# Altium schematic symbol library Inductors.SchLib: 21 symbols
Pins are listed as number, name and electrical type; pins without a type are passive.

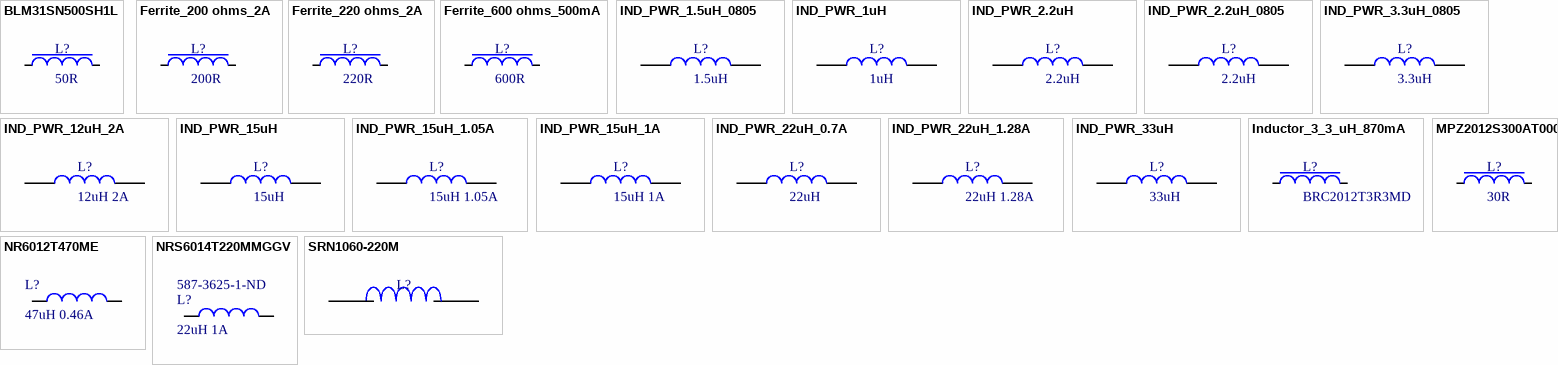
[diagram p0: symbols BLM31SN500SH1L to SRN1060-220M]

## BLM31SN500SH1L
designator L?, comment 50R
FILTER CHIP 50 OHM 12A 1206; Manufacturer: Murata Electronics North America; Manufacturer Part Number: BLM31SN500SH1L; Filter Type: Power Line; Number of Lines: 1; Impedance @ Frequency: 50 Ohm @ 100MHz; DC Resistance (DCR) (Max): 1.6 mOhm; Supplier 1: Digi-Key; RoHS: RoHS Compliant; Category: Filters; Stock 1: 4286; Pricing 1: 1=0.49, 10=0.405, 50=0.3148, 100=0.2797, 250=0.25172, 500=0.23074, 1000=0.19578 (CAD); Packaging: Cut Tape (CT); Part Status: Active; Current Rating (Max): 12A; Ratings: AEC-Q200; Operating Temperature: -55°C ~ 125°C; Package / Case: 1206 (3216 Metric); Mounting Type: Surface Mount; Height (Max): 0.051" (1.30mm); Size / Dimension: 0.126" L x 0.063" W (3.20mm x 1.60mm); ComponentLink1URL: http://www.murata.com/en-us/products/productdata/8796740583454/QNFA9105.pdf; ComponentLink1Description: http://www.murata.com/en-us/products/productdata/8796740583454/QNFA9105.pdf; Supplier Part Number 1: 490-13268-1-ND
footprint IND_1206 (Chip Inductor, 2-Leads, Body 3,1x1,6mm, IPC High Density)
pins: 1, 2

## Ferrite_200 ohms_2A
designator L?, comment 200R
FILTER CHIP 220 OHM 2A 0603; Manufacturer: Murata Electronics North America; Manufacturer Part Number: BLM18EG221SN1D; Impedance @ Frequency: 220 Ohm @ 100MHz; DC Resistance (DCR): 50 mOhm Max; Filter Type: Differential Mode - Single; Supplier 1: Digi-Key; RoHS: RoHS Compliant; Category: Filters; Stock 1: 382631; Pricing 1: 1=0.33, 10=0.254, 50=0.1814, 100=0.1632, 250=0.13784, 500=0.12332, 1000=0.10519 (CAD); Packaging: Cut Tape (CT); Current Rating: 2A; Package / Case: 0603 (1608 Metric); Mounting Type: Surface Mount; Height (Max): 0.037" (0.95mm); Size / Dimension: 0.063" L x 0.031" W (1.60mm x 0.80mm); ComponentLink1URL: http://search.murata.co.jp/Ceramy/image/img/PDF/ENG/L0110S0101BLM18E.pdf; ComponentLink1Description: http://search.murata.co.jp/Ceramy/image/img/PDF/ENG/L0110S0101BLM18E.pdf; Supplier Part Number 1: 490-3992-1-ND
footprint IND_0603
pins: 1, 2

## Ferrite_220 ohms_2A
designator L?, comment 220R
FILTER CHIP 220 OHM 2A 0805; Manufacturer: Murata Electronics North America; Manufacturer Part Number: BLM21PG221SN1D; Filter Type: Power Line; Number of Lines: 1; Impedance @ Frequency: 220 Ohm @ 100MHz; DC Resistance (DCR) (Max): 45 mOhm; Supplier 1: Digi-Key; Supplier Part Number 1: 490-1054-1-ND; RoHS: RoHS Compliant; Category: Filters; Stock 1: 892353; Pricing 1: 1=0.17, 10=0.137, 50=0.1114, 100=0.0817, 250=0.05944, 500=0.05446, 1000=0.04703 (CAD); Packaging: Cut Tape (CT); Current Rating (Max): 2A; Ratings: -; Operating Temperature: -55°C ~ 125°C; Package / Case: 0805 (2012 Metric); Mounting Type: Surface Mount; Height (Max): 0.041" (1.05mm); Size / Dimension: 0.079" L x 0.049" W (2.00mm x 1.25mm); ComponentLink1URL: http://search.murata.co.jp/Ceramy/image/img/PDF/ENG/L0110S0100BLM21P.pdf; ComponentLink1Description: http://search.murata.co.jp/Ceramy/image/img/PDF/ENG/L0110S0100BLM21P.pdf
footprint INDC2012X06N (Chip Inductor 2-Leads, Body 2,0x1,3mm, IPC Medium Density)
pins: 1, 2

## Ferrite_600 ohms_500mA
designator L?, comment 600R
FILTER CHIP 600 OHM 500MA 0603; Manufacturer: Murata Electronics North America; Manufacturer Part Number: BLM18EG601SN1D; Impedance @ Frequency: 600 Ohm @ 100MHz; DC Resistance (DCR): 350 mOhm Max; Filter Type: Differential Mode - Single; Supplier 1: Digi-Key; Supplier Part Number 1: 490-3994-1-ND; RoHS: RoHS Compliant; Category: Filters; Stock 1: 105106; Pricing 1: 1=0.3, 10=0.227, 50=0.1622, 100=0.1458, 250=0.12312, 500=0.11016, 1000=0.09396 (CAD); Packaging: Cut Tape (CT); Current Rating: 500mA; Package / Case: 0603 (1608 Metric); Mounting Type: Surface Mount; Height (Max): 0.037" (0.95mm); Size / Dimension: 0.063" L x 0.031" W (1.60mm x 0.80mm); ComponentLink1URL: http://search.murata.co.jp/Ceramy/image/img/PDF/ENG/L0110S0101BLM18E.pdf; ComponentLink1Description: http://search.murata.co.jp/Ceramy/image/img/PDF/ENG/L0110S0101BLM18E.pdf
footprint IND_0603
pins: 1, 2

## IND_PWR_1.5uH_0805
designator L?, comment 1.5uH
FIXED IND 1.5UH 1.63A 116 MOHM; Manufacturer: TDK Corporation; Manufacturer Part Number: VLS201610HBX-1R5M-1; Type: Wirewound; Material - Core: Metal; Tolerance: ±20%; Current - Saturation: 2A; Shielding: Shielded; DC Resistance (DCR): 116 mOhm Max; Supplier 1: Digi-Key; RoHS: RoHS Compliant; Category: Inductors, Coils, Chokes; Stock 1: 3535; Pricing 1: 1=0.61, 10=0.531, 100=0.3795, 500=0.31878, 1000=0.25806 (USD); Packaging: Cut Tape (CT); Part Status: Active; Q @ Freq: -; Frequency - Self Resonant: -; Ratings: -; Operating Temperature: -40°C ~ 105°C; Mounting Type: Surface Mount; Package / Case: 0806 (2016 Metric); Supplier Device Package: 0806 (2016 Metric); Size / Dimension: 0.079" L x 0.063" W (2.00mm x 1.60mm); Height - Seated (Max): 0.039" (1.00mm); ComponentLink1URL: https://product.tdk.com/info/en/catalog/datasheets/inductor_commercial_power_vls201610hbx-1_en.pdf; ComponentLink1Description: https://product.tdk.com/info/en/catalog/datasheets/inductor_commercial_power_vls201610hbx-1_en.pdf; Supplier Part Number 1: 445-172391-1-ND
footprint INDC2012X06N (Chip Inductor 2-Leads, Body 2,0x1,3mm, IPC Medium Density)
footprint INDC2012X12L (Chip Inductor, 2-Leads, Body 2.00x1.25mm, IPC High Density)
pins: 1, 2

## IND_PWR_1uH
designator L?, comment 1uH
INDUCTOR POWER 1UH 2.35A SMD; Manufacturer: Bourns Inc.; Manufacturer Part Number: SRN3015-1R0Y; Type: Wirewound; Material - Core: Ferrite; Inductance: 1µH; Tolerance: ±30%; Shielding: Shielded; DC Resistance (DCR): 48 mOhm Max; Q @ Freq: 10 @ 7.96MHz; Frequency - Self Resonant: 145MHz; Frequency - Test: 1MHz; Supplier 1: Digi-Key; RoHS: RoHS Compliant; Category: Inductors, Coils, Chokes; Stock 1: 1536; Pricing 1: 1=0.58, 10=0.518, 25=0.4856, 50=0.421, 100=0.3886, 250=0.3692, 500=0.33682, 1000=0.28499 (CAD); Packaging: Cut Tape (CT); Current Rating: 2.35A; Current - Saturation: 2.35A; Ratings: -; Operating Temperature: -40°C ~ 125°C; Mounting Type: Surface Mount; Package / Case: Nonstandard; Size / Dimension: 0.118" L x 0.118" W (3.00mm x 3.00mm); Height - Seated (Max): 0.059" (1.50mm); ComponentLink1URL: http://www.bourns.com/docs/Product-Datasheets/SRN3015.pdf; ComponentLink1Description: http://www.bourns.com/docs/Product-Datasheets/SRN3015.pdf; Supplier Part Number 1: SRN3015-1R0YCT-ND
footprint INDM3030X10L (Molded Inductor, 2-Leads, Body 3.00x3.00mm, IPC High Density)
pins: 1, 2

## IND_PWR_2.2uH
designator L?, comment 2.2uH
INDUCTOR POWER 2.2UH 6.3A SMD; Manufacturer: Bourns Inc.; Manufacturer Part Number: SRN8040-2R2Y; Type: Wirewound; Material - Core: Ferrite; Inductance: 2.2µH; Tolerance: ±30%; Current - Saturation: 7.4A; Shielding: Shielded; DC Resistance (DCR): 13 mOhm Max; Q @ Freq: 13 @ 7.96MHz; Frequency - Self Resonant: 40MHz; Frequency - Test: 100kHz; Supplier 1: Digi-Key; RoHS: RoHS Compliant; Category: Inductors, Coils, Chokes; Stock 1: 4866; Pricing 1: 1=0.94, 10=0.829, 25=0.7772, 50=0.6736, 100=0.6218, 250=0.59072, 500=0.5389 (CAD); Packaging: Cut Tape (CT); Current Rating: 6.3A; Ratings: -; Operating Temperature: -40°C ~ 125°C; Mounting Type: Surface Mount; Package / Case: Nonstandard; Size / Dimension: 0.315" L x 0.315" W (8.00mm x 8.00mm); Height - Seated (Max): 0.157" (4.00mm); ComponentLink1URL: http://www.bourns.com/docs/Product-Datasheets/SRN8040.pdf; ComponentLink1Description: http://www.bourns.com/docs/Product-Datasheets/SRN8040.pdf; Supplier Part Number 1: SRN8040-2R2YCT-ND
footprint IND_VLP8040
pins: 1, 2

## IND_PWR_2.2uH_0805
designator L?, comment 2.2uH
FIXED IND 2.2UH 1.85A 137 MOHM; Manufacturer: TDK Corporation; Manufacturer Part Number: VLS201612HBX-2R2M-1; Type: Wirewound; Material - Core: Metal; Tolerance: ±20%; Current - Saturation: 1.67A; Shielding: Shielded; DC Resistance (DCR): 137 mOhm Max; Supplier 1: Digi-Key; RoHS: RoHS Compliant; Category: Inductors, Coils, Chokes; Stock 1: 8265; Pricing 1: 1=0.7, 10=0.611, 100=0.4364, 500=0.3666, 1000=0.29677 (USD); Packaging: Cut Tape (CT); Part Status: Active; Q @ Freq: -; Frequency - Self Resonant: -; Ratings: -; Operating Temperature: -40°C ~ 105°C; Mounting Type: Surface Mount; Package / Case: 0806 (2016 Metric); Supplier Device Package: 0806 (2016 Metric); Size / Dimension: 0.079" L x 0.063" W (2.00mm x 1.60mm); Height - Seated (Max): 0.047" (1.20mm); ComponentLink1URL: https://product.tdk.com/info/en/catalog/datasheets/inductor_commercial_power_vls201612hbx-1_en.pdf; ComponentLink1Description: https://product.tdk.com/info/en/catalog/datasheets/inductor_commercial_power_vls201612hbx-1_en.pdf; Supplier Part Number 1: 445-173012-1-ND
footprint INDC2012X06N (Chip Inductor 2-Leads, Body 2,0x1,3mm, IPC Medium Density)
footprint INDC2012X12L (Chip Inductor, 2-Leads, Body 2.00x1.25mm, IPC High Density)
pins: 1, 2

## IND_PWR_3.3uH_0805
designator L?, comment 3.3uH
FIXED IND 3.3UH 1.38A 209 MOHM; Manufacturer: TDK Corporation; Manufacturer Part Number: VLS201612HBX-3R3M-1; Type: Wirewound; Material - Core: Metal; Tolerance: ±20%; Current - Saturation: 1.33A; Shielding: Shielded; DC Resistance (DCR): 209 mOhm Max; Supplier 1: Digi-Key; RoHS: RoHS Compliant; Category: Inductors, Coils, Chokes; Stock 1: 2867; Pricing 1: 1=0.7, 10=0.611, 100=0.4364, 500=0.3666, 1000=0.29677 (USD); Packaging: Cut Tape (CT); Part Status: Active; Q @ Freq: -; Frequency - Self Resonant: -; Ratings: -; Operating Temperature: -40°C ~ 105°C; Mounting Type: Surface Mount; Package / Case: 0806 (2016 Metric); Supplier Device Package: 0806 (2016 Metric); Size / Dimension: 0.079" L x 0.063" W (2.00mm x 1.60mm); Height - Seated (Max): 0.047" (1.20mm); ComponentLink1URL: https://product.tdk.com/info/en/catalog/datasheets/inductor_commercial_power_vls201612hbx-1_en.pdf; ComponentLink1Description: https://product.tdk.com/info/en/catalog/datasheets/inductor_commercial_power_vls201612hbx-1_en.pdf; Supplier Part Number 1: 445-173013-1-ND
footprint INDC2012X06N (Chip Inductor 2-Leads, Body 2,0x1,3mm, IPC Medium Density)
footprint INDC2012X12L (Chip Inductor, 2-Leads, Body 2.00x1.25mm, IPC High Density)
pins: 1, 2

## IND_PWR_12uH_2A
designator L?, comment 12uH 2A
FIXED IND 12UH 3A 80 MOHM SMD; Manufacturer: Bourns Inc.; Manufacturer Part Number: SDE0805A-120M; Type: Wirewound; Material - Core: Ferrite; Inductance: 12µH; Tolerance: ±20%; Current - Saturation: 2.4A; Shielding: Unshielded; DC Resistance (DCR): 80 mOhm Max; Frequency - Self Resonant: 25.8MHz; Frequency - Test: 1MHz; Supplier 1: Digi-Key; RoHS: RoHS Compliant; Category: Inductors, Coils, Chokes; Stock 1: 199; Pricing 1: 1=0.9, 10=0.79, 25=0.7408, 50=0.6422, 100=0.5927, 250=0.56308, 500=0.5137 (CAD); Packaging: Cut Tape (CT); Current Rating: 3A; Q @ Freq: -; Operating Temperature: -40°C ~ 125°C; Mounting Type: Surface Mount; Package / Case: Nonstandard; Size / Dimension: 0.307" L x 0.276" W (7.80mm x 7.00mm); Height - Seated (Max): 0.217" (5.50mm); Supplier Device Package: -; ComponentLink1URL: http://www.bourns.com/docs/Product-Datasheets/SDE0805A.pdf; ComponentLink1Description: http://www.bourns.com/docs/Product-Datasheets/SDE0805A.pdf; Supplier Part Number 1: SDE0805A-120MCT-ND
footprint SDE0805A
pins: 1, 2

## IND_PWR_15uH
designator L?, comment 15uH
INDUCTOR POWER 15UH 0.8A SMD; Manufacturer: Bourns Inc.; Manufacturer Part Number: SRN3010-150M; Type: Wirewound; Material - Core: Ferrite; Inductance: 15µH; Tolerance: ±20%; Current Rating: 800mA; Current - Saturation: 500mA; Shielding: Shielded; DC Resistance (DCR): 612 mOhm Max; Frequency - Test: 100kHz; Supplier 1: Digi-Key; Supplier Part Number 1: SRN3010-150MCT-ND; RoHS: RoHS Compliant; Category: Inductors, Coils, Chokes; Stock 1: 3140; Pricing 1: 1=0.52, 10=0.461, 25=0.432, 50=0.3746, 100=0.3457, 250=0.32848, 500=0.29964, 1000=0.25355 (CAD); Packaging: Cut Tape (CT); Q @ Freq: -; Frequency - Self Resonant: -; Operating Temperature: -40°C ~ 125°C; Mounting Type: Surface Mount; Package / Case: Nonstandard; Size / Dimension: 0.118" L x 0.118" W (3.00mm x 3.00mm); Height - Seated (Max): 0.039" (1.00mm); Supplier Device Package: -; ComponentLink1URL: http://www.bourns.com/data/global/pdfs/SRN3010.pdf; ComponentLink1Description: http://www.bourns.com/data/global/pdfs/SRN3010.pdf
footprint INDM3030X10L (Molded Inductor, 2-Leads, Body 3.00x3.00mm, IPC High Density)
pins: 1, 2

## IND_PWR_15uH_1.05A
designator L?, comment 15uH 1.05A
INDUCTOR POWER 15UH 1.05A SMD; Manufacturer: TDK Corporation; Manufacturer Part Number: VLS4012ET-150M-CA; Type: Wirewound; Material - Core: Ferrite; Inductance: 15µH; Tolerance: ±20%; Current - Saturation: 700mA; Shielding: Shielded; DC Resistance (DCR): 372 mOhm Max; Frequency - Test: 1MHz; Supplier 1: Digi-Key; RoHS: RoHS Compliant; Category: Inductors, Coils, Chokes; Stock 1: 1965; Pricing 1: 1=1.31, 10=1.163, 50=0.9446, 100=0.8721, 500=0.7558 (CAD); Packaging: Cut Tape (CT); Current Rating: 1.05A; Q @ Freq: -; Frequency - Self Resonant: -; Operating Temperature: -40°C ~ 105°C; Mounting Type: Surface Mount; Package / Case: Nonstandard; Size / Dimension: 0.157" L x 0.157" W (4.00mm x 4.00mm); Height - Seated (Max): 0.047" (1.20mm); Supplier Device Package: -; ComponentLink1URL: http://product.tdk.com/inductor/ind/en/documents/inductor_automotive_power_vls-e-ca_en.pdf; ComponentLink1Description: http://product.tdk.com/inductor/ind/en/documents/inductor_automotive_power_vls-e-ca_en.pdf; Supplier Part Number 1: 445-16726-1-ND
footprint INDP4040X12L (Precision Wire Wound Inductor, 2-Leads, Body 4.00x4.00mm, IPC High Density)
pins: 1, 2

## IND_PWR_15uH_1A
designator L?, comment 15uH 1A
INDUCTOR POWER 15UH 1A SMD; Manufacturer: Bourns Inc.; Manufacturer Part Number: SRN4018-150M; Type: Wirewound; Material - Core: Ferrite; Inductance: 15µH; Tolerance: ±20%; Current - Saturation: 1.1A; Shielding: Shielded; DC Resistance (DCR): 264 mOhm Max; Frequency - Test: 100kHz; Supplier 1: Digi-Key; RoHS: RoHS Compliant; Category: Inductors, Coils, Chokes; Stock 1: 3399; Pricing 1: 1=0.52, 10=0.46, 25=0.4316, 50=0.3742, 100=0.3453, 250=0.32808, 500=0.29928, 1000=0.25325 (CAD); Packaging: Cut Tape (CT); Current Rating: 1A; Q @ Freq: -; Frequency - Self Resonant: -; Operating Temperature: -25°C ~ 120°C; Mounting Type: Surface Mount; Package / Case: Nonstandard; Size / Dimension: 0.157" L x 0.157" W (4.00mm x 4.00mm); Height - Seated (Max): 0.071" (1.80mm); Supplier Device Package: -; ComponentLink1URL: http://www.bourns.com/data/global/pdfs/SRN4018.pdf; ComponentLink1Description: http://www.bourns.com/data/global/pdfs/SRN4018.pdf; Supplier Part Number 1: SRN4018-150MCT-ND
footprint INDP4040X12L (Precision Wire Wound Inductor, 2-Leads, Body 4.00x4.00mm, IPC High Density)
pins: 1, 2

## IND_PWR_22uH_0.7A
designator L?, comment 22uH
INDUCTOR POWER 22UH 0.7A SMD; Manufacturer: Bourns Inc.; Manufacturer Part Number: SRN3010-220M; Type: Wirewound; Material - Core: Ferrite; Inductance: 22µH; Tolerance: ±20%; Current Rating: 700mA; Current - Saturation: 400mA; Shielding: Shielded; DC Resistance (DCR): 936 mOhm Max; Frequency - Test: 100kHz; Supplier 1: Digi-Key; RoHS: RoHS Compliant; Category: Inductors, Coils, Chokes; Stock 1: 3562; Pricing 1: 1=0.53, 10=0.467, 25=0.4376, 50=0.3794, 100=0.3502, 250=0.33264, 500=0.30348, 1000=0.25678 (CAD); Packaging: Cut Tape (CT); Q @ Freq: -; Frequency - Self Resonant: -; Operating Temperature: -40°C ~ 125°C; Mounting Type: Surface Mount; Package / Case: Nonstandard; Size / Dimension: 0.118" L x 0.118" W (3.00mm x 3.00mm); Height - Seated (Max): 0.039" (1.00mm); Supplier Device Package: -; ComponentLink1URL: http://www.bourns.com/data/global/pdfs/SRN3010.pdf; ComponentLink1Description: http://www.bourns.com/data/global/pdfs/SRN3010.pdf; Supplier Part Number 1: SRN3010-220MCT-ND
footprint INDM3030X10L (Molded Inductor, 2-Leads, Body 3.00x3.00mm, IPC High Density)
pins: 1, 2

## IND_PWR_22uH_1.28A
designator L?, comment 22uH 1.28A
FIXED IND 22UH 1.28A 648MOHM SMD; Manufacturer: TDK Corporation; Manufacturer Part Number: VLS4012HBX-220M; Type: Wirewound; Material - Core: Metal; Tolerance: ±20%; Current - Saturation: 1.57A; Shielding: Shielded; DC Resistance (DCR): 648 mOhm Max; Supplier 1: Digi-Key; RoHS: RoHS Compliant; Category: Inductors, Coils, Chokes; Stock 1: 2000; Pricing 1: 1=0.86, 10=0.754, 100=0.5448, 500=0.46098 (USD); Packaging: Cut Tape (CT); Part Status: Active; Q @ Freq: -; Frequency - Self Resonant: -; Ratings: -; Operating Temperature: -40°C ~ 105°C; Features: -; Mounting Type: Surface Mount; Package / Case: Nonstandard; Supplier Device Package: -; Size / Dimension: 0.157" L x 0.157" W (4.00mm x 4.00mm); Height - Seated (Max): 0.047" (1.20mm); ComponentLink1URL: https://product.tdk.com/info/en/catalog/datasheets/inductor_commercial_power_vls4012hbx_en.pdf; ComponentLink1Description: https://product.tdk.com/info/en/catalog/datasheets/inductor_commercial_power_vls4012hbx_en.pdf; Supplier Part Number 1: 445-180920-1-ND
footprint INDP4040X12L (Precision Wire Wound Inductor, 2-Leads, Body 4.00x4.00mm, IPC High Density)
pins: 1, 2

## IND_PWR_33uH
designator L?, comment 33uH
INDUCTOR POWER 33UH 1.8A SMD; Manufacturer: TDK Corporation; Manufacturer Part Number: VLP8040T-330M; Type: Wirewound; Material - Core: Ferrite; Inductance: 33µH; Tolerance: ±20%; Shielding: Shielded; DC Resistance (DCR): 110 mOhm Max; Frequency - Test: 100kHz; Supplier 1: Digi-Key; Supplier Part Number 1: 445-6579-1-ND; RoHS: RoHS Compliant; Category: Inductors, Coils, Chokes; Stock 1: 9673; Pricing 1: 1=0.59, 10=0.524, 50=0.4258, 100=0.393, 500=0.3406 (USD); Packaging: Cut Tape (CT); Current Rating: 1.8A; Current - Saturation: 1.8A; Q @ Freq: -; Frequency - Self Resonant: -; Operating Temperature: -40°C ~ 105°C; Mounting Type: Surface Mount; Package / Case: Non Standard; Size / Dimension: 0.315" L x 0.303" W (8.00mm x 7.70mm); Height - Seated (Max): 0.157" (4.00mm); Supplier Device Package: -; ComponentLink1URL: http://product.tdk.com/inductor/ind/en/documents/inductor_commercial_power_vlp_en.pdf; ComponentLink1Description: http://product.tdk.com/inductor/ind/en/documents/inductor_commercial_power_vlp_en.pdf
footprint IND_VLP8040
pins: 1, 2

## Inductor_3_3_uH_870mA
designator L?, comment BRC2012T3R3MD
3.3µH Unshielded Wirewound Inductor 870mA 221 mOhm Max 0805 (2012 Metric); Manufacturer: Taiyo Yuden; Tolerance: ±20%; Current - Saturation: 800mA; Frequency - Self Resonant: 300MHz; Frequency - Test: 1MHz; Supplier 1: Digi-Key; Manufacturer Part Number: BRC2012T3R3MD; RoHS: RoHS Compliant; Category: Inductors, Coils, Chokes; Stock 1: 4664; Pricing 1: 1=0.48, 10=0.427, 25=0.3788, 50=0.3316, 100=0.3078, 250=0.28404, 500=0.26984, 1000=0.21775 (CAD); Packaging: Cut Tape (CT); Part Status: Active; Type: Wirewound; Material - Core: -; Inductance: 3.3µH; Current Rating: 870mA; Shielding: Unshielded; DC Resistance (DCR): 221 mOhm Max; Q @ Freq: -; Ratings: -; Operating Temperature: -40°C ~ 105°C; Mounting Type: Surface Mount; Package / Case: 0805 (2012 Metric); Size / Dimension: 0.079" L x 0.049" W (2.00mm x 1.25mm); Height - Seated (Max): 0.055" (1.40mm); ComponentLink1URL: http://ds.yuden.co.jp/TYCOMPAS/ut/detail.do?productNo=BRC2012T3R3MD&fileName=BRC2012T3R3MD_SS&mode=specSheetDownload; ComponentLink1Description: http://ds.yuden.co.jp/TYCOMPAS/ut/detail.do?productNo=BRC2012T3R3MD&fileName=BRC2012T3R3MD_SS&mode=specSheetDownload; Supplier Part Number 1: 587-2906-1-ND
footprint INDC2012X06N (Chip Inductor 2-Leads, Body 2,0x1,3mm, IPC Medium Density)
pins: 1, 2

## MPZ2012S300AT000
designator L?, comment 30R
FILTER CHIP 30 OHM 6A 0805; Manufacturer: TDK Corporation; Manufacturer Part Number: MPZ2012S300AT000; Impedance @ Frequency: 30 Ohm @ 100MHz; DC Resistance (DCR): 10 mOhm Max; Filter Type: Differential Mode - Single; Supplier 1: Digi-Key; RoHS: RoHS Compliant; Category: Filters; Stock 1: 416403; Pricing 1: 1=0.16, 10=0.138, 100=0.0786, 250=0.06204, 500=0.0524, 1000=0.04413 (CAD); Packaging: Cut Tape (CT); Current Rating: 6A; Package / Case: 0805 (2012 Metric); Mounting Type: Surface Mount; Height (Max): 0.041" (1.05mm); Size / Dimension: 0.079" L x 0.049" W (2.00mm x 1.25mm); ComponentLink1URL: http://product.tdk.com/en/catalog/datasheets/beads_commercial_power_mpz_en.pdf; ComponentLink1Description: http://product.tdk.com/en/catalog/datasheets/beads_commercial_power_mpz_en.pdf; Supplier Part Number 1: 445-1566-1-ND
footprint INDC2012X06N (Chip Inductor 2-Leads, Body 2,0x1,3mm, IPC Medium Density)
pins: 1, 2

## NR6012T470ME
designator L?, comment 47uH 0.46A
Inductor 47uH 0.46A; Manufacturer: Taiyo Yuden; Manufacturer Part Number: NR6012T470ME; Material - Core: Ferrite; Inductance: 47µH; Tolerance: ±20%; Current Rating: 460mA; Current - Saturation: 520mA; Shielding: Shielded; DC Resistance (DCR): 1.26 Ohm Max; Frequency - Self Resonant: 6MHz; Frequency - Test: 100kHz; Supplier 1: Digi-Key; RoHS: RoHS Compliant; Category: Inductors, Coils, Chokes; Stock 1: 3225; Pricing 1: 1=0.79, 10=0.694, 25=0.6512, 50=0.5644, 100=0.5209, 250=0.49484, 500=0.45142 (CAD); Packaging: Cut Tape (CT); Type: -; Q @ Freq: -; Operating Temperature: -25°C ~ 120°C; Mounting Type: Surface Mount; Package / Case: Nonstandard; Size / Dimension: 0.236" L x 0.236" W (6.00mm x 6.00mm); Height - Seated (Max): 0.047" (1.20mm); Supplier Device Package: -; ComponentLink1URL: http://www.yuden.co.jp/productdata/catalog/en/wound04_e.pdf; ComponentLink1Description: http://www.yuden.co.jp/productdata/catalog/en/wound04_e.pdf; Supplier Part Number 1: 587-2030-1-ND
footprint INDC6060X14N (Chip Inductor, 2-Leads, Body 6.00x6.00mm, IPC Medium Density)
pins: 1, 2

## NRS6014T220MMGGV
designator L?, comment 22uH 1A  Supplier Part Number 1: 587-3625-1-ND
Inductor 22uH 1A; Supplier 1: Digi-Key
footprint INDC6060X14N (Chip Inductor, 2-Leads, Body 6.00x6.00mm, IPC Medium Density)
pins: 1, 2

## SRN1060-220M
designator L?  (value not drawn)
FIXED IND 22UH 3.4A 53 MOHM SMD; Manufacturer: Bourns Inc.; Type: Wirewound; Material - Core: Ferrite; Inductance: 22µH; Tolerance: ±20%; Shielding: Shielded; DC Resistance (DCR): 53 mOhm Max; Frequency - Test: 100kHz; Supplier 1: Digi-Key; Manufacturer Part Number: SRN1060-220M; RoHS: RoHS Compliant; Category: Inductors, Coils, Chokes; Stock 1: 1234; Pricing 1: 1=0.99, 10=0.882, 25=0.8272, 50=0.717, 100=0.6618, 250=0.62872 (CAD); Packaging: Cut Tape (CT); Current Rating: 3.4A; Current - Saturation: 3.4A; Q @ Freq: -; Frequency - Self Resonant: -; Operating Temperature: -40°C ~ 125°C; Mounting Type: Surface Mount; Package / Case: Nonstandard; Size / Dimension: 0.394" L x 0.386" W (10.00mm x 9.80mm); Height - Seated (Max): 0.236" (6.00mm); Supplier Device Package: -; ComponentLink1URL: http://www.bourns.com/data/global/pdfs/SRN1060.pdf; ComponentLink1Description: http://www.bourns.com/data/global/pdfs/SRN1060.pdf; Supplier Part Number 1: SRN1060-220MCT-ND
footprint INDP10097X40N (Precision Wire Wound Inductor, 2-Leads, Body 10,0x9,7mm, IPC Medium Density)
pins: 1, 2